# Altium schematic symbol library UCS2C331MHD.SchLib: 1 symbol
Pins are listed as number, name and electrical type; pins without a type are passive.

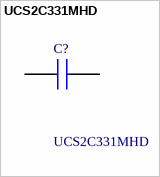
[diagram p0: symbol UCS2C331MHD]

## UCS2C331MHD
designator C?
Aluminum Electrolytic Capacitors - Radial Leaded 160VOLTS 330uf 18X31.5 20%; Manufacturer_Name: Nichicon; Geometry.Height: 32mm; Mouser Part Number: 647-UCS2C331MHD; Mouser Price/Stock: https://www.mouser.co.uk/ProductDetail/Nichicon/UCS2C331MHD?qs=Im7Ui%252B8riBXnrXQfoAgrfg%3D%3D; Manufacturer_Part_Number: UCS2C331MHD; Datasheet Link: http://nichicon-us.com/english/products/pdfs/e-ucs.pdf
footprint CAPPRD750W80D1825H3200
pins: 1 +, 2 -